# Altium footprint library drive.PcbLib: 35 footprints (part 1 of 3)
Each footprint in its own frame and in the unit in brackets; x right, y up, seen from the top. Pads: shape width x height; smd on the part's side, far side on the other; paste and mask are expansions set on the pad; w line width, h text height; cw(c..) or ccw(c..) is an arc to the next point about the centre after c.
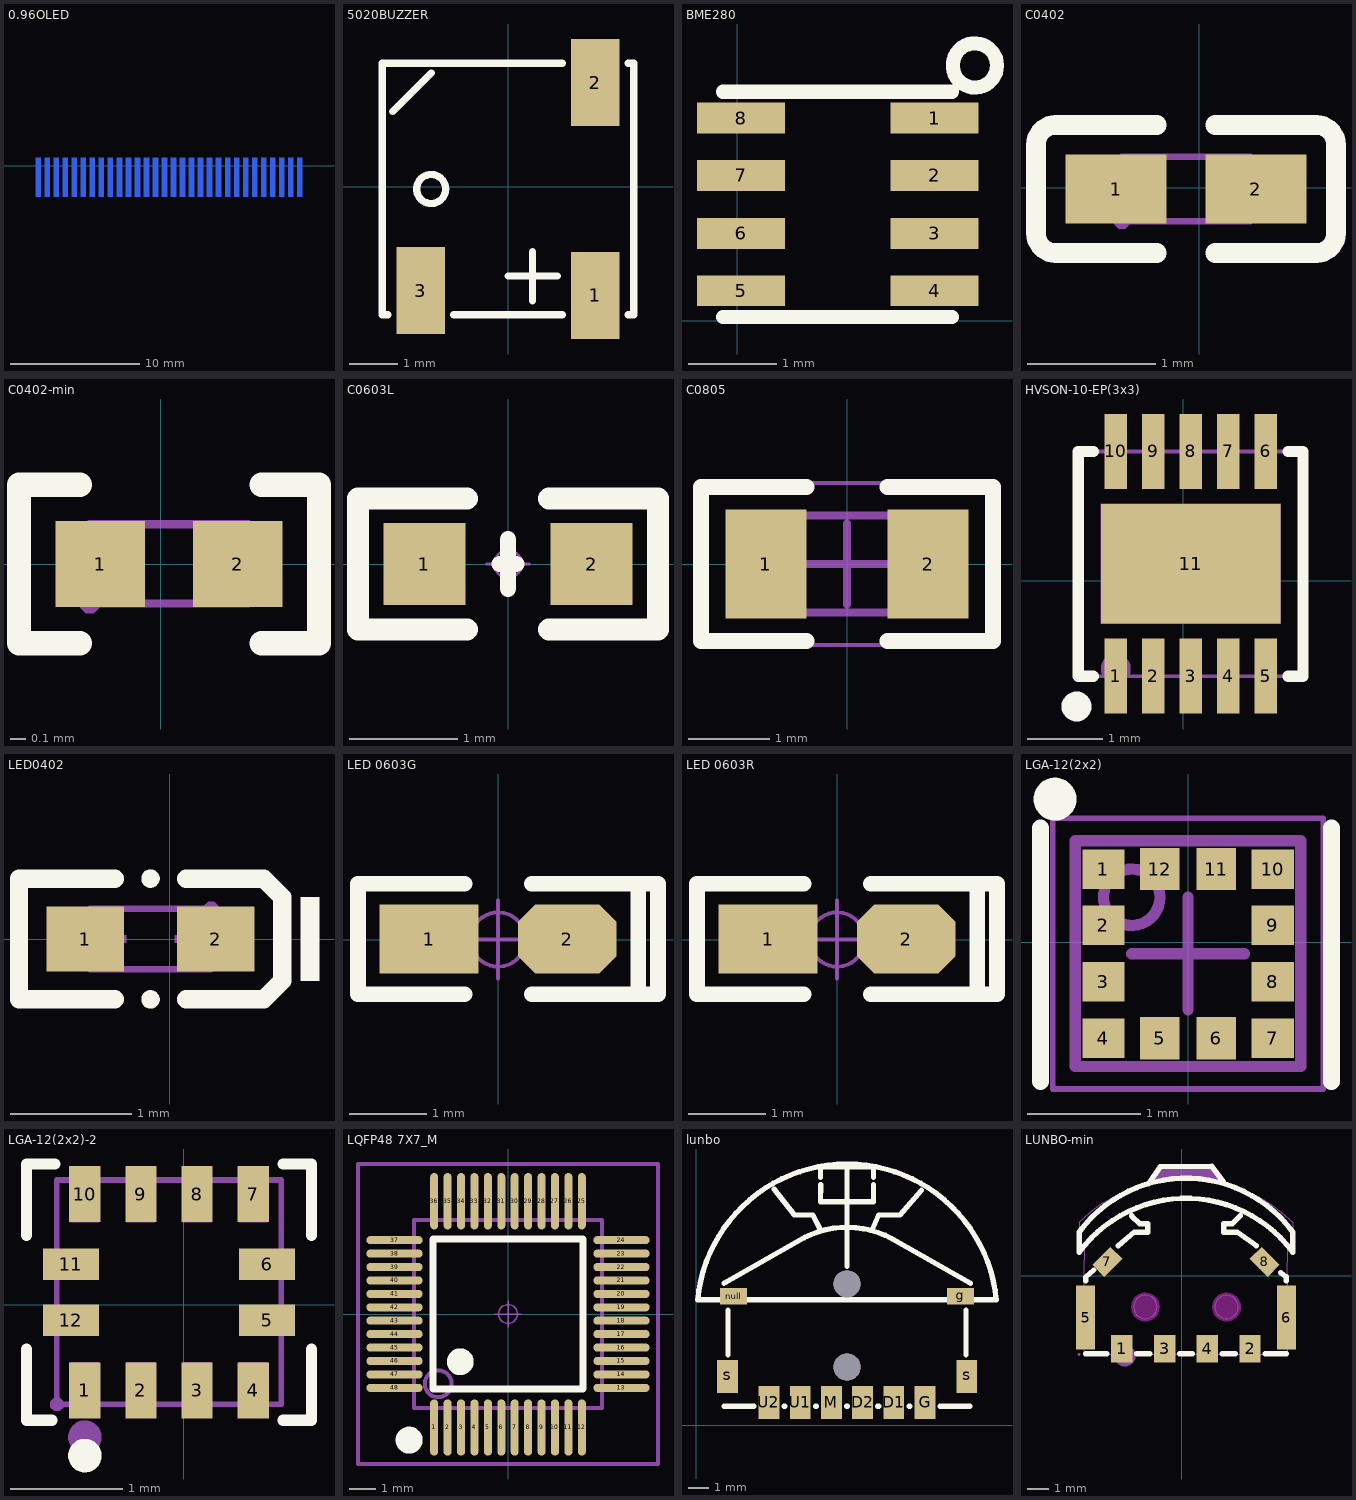
[diagram p0: the footprints below, top view; thin cyan lines are the x and y axes]

## 0.96OLED [mm]
pads (30):
  rect 0.4x3 smd far side: 1(6.35,-0.9) 2(7.05,-0.9) 3(7.75,-0.9) 4(8.45,-0.9) 5(9.15,-0.9) 6(9.85,-0.9) 7(10.55,-0.9) 8(11.25,-0.9) 9(11.95,-0.9) 10(12.65,-0.9) 11(13.35,-0.9) 12(14.05,-0.9) 13(14.75,-0.9) 14(15.45,-0.9) 15(16.15,-0.9) 16(16.85,-0.9) 17(17.55,-0.9) 18(18.25,-0.9) 19(18.95,-0.9) 20(19.65,-0.9) 21(20.35,-0.9) 22(21.05,-0.9) 23(21.75,-0.9) 24(22.45,-0.9) 25(23.15,-0.9) 26(23.85,-0.9) 27(24.55,-0.9) 28(25.25,-0.9) 29(25.95,-0.9) 30(26.65,-0.9)
Bottom Overlay:
  lines w0.127: 5.3,-5.12 5.3,1.2 5.5,1.5 27.5,1.5 27.7,1.2 27.7,-4.97
  text "30" at 27.301,-3.359 h0.8

## 5020BUZZER [mm] "无源蜂鸣器"
height 1.2
pads (3):
  rect 1x1.8 smd: 1(1.8,-2.25) 2(1.8,2.152) 3(-1.8,-2.151)
Top Overlay:
  circle w0.15: c-1.588,-0.049 r0.3
  lines w0.15: -2.48,-2.649 -2.6,-2.649 -2.6,2.551 -2.4,2.551 1.121,2.551 ; -2.388,1.551 -1.588,2.351 ; -1.121,-2.649 1.121,-2.649 ; 0,-1.849 1.016,-1.849 ; 0.508,-2.357 0.508,-1.341 ; 2.48,-2.649 2.6,-2.649 2.6,2.551 2.48,2.551
3D body "BEEP_5020.STEP": height 2, standoff -0.1, extent -2.6,-2.7 2.6,2.5

## BME280 [mm]
height 1.6
pads (8):
  rect 1x0.351 smd: 1(2.243,2.301) 2(2.243,1.651) 3(2.243,0.991) 4(2.243,0.341) 5(0.043,0.341) 6(0.043,0.991) 7(0.043,1.651) 8(0.043,2.301)
Top Overlay:
  circle w0.16: c2.7,2.9 r0.251
  lines w0.16: -0.16,0.041 2.44,0.041 ; -0.16,2.601 2.44,2.601
3D body "BME280.STEP": height 0.93, standoff 0, extent -0.15,0.05 2.35,2.55

## C0402 [mm]
pads (2):
  rect 0.79x0.54 smd paste-100 mask+0.051: 1(-0.646,-0.009) 2(0.444,-0.009)
Top Overlay:
  lines w0.152: -0.328,-0.508 -1.118,-0.508 cw(c-1.118,-0.356) -1.27,-0.356 -1.27,0.337 cw(c-1.118,0.337) -1.118,0.489 -0.328,0.489 ; 0.125,-0.508 0.915,-0.508 ccw(c0.915,-0.356) 1.067,-0.356 1.067,0.337 ccw(c0.915,0.337) 0.915,0.489 0.125,0.489
Top Paste:
  region: 0.679,0.216 0.679,-0.234 0.629,-0.284 0.149,-0.284 0.079,-0.234 0.079,0.216 0.149,0.266 0.629,0.266
  region: -0.281,0.216 -0.281,-0.234 -0.351,-0.284 -0.831,-0.284 -0.881,-0.234 -0.881,0.216 -0.831,0.266 -0.351,0.266
Mechanical 15:
  region: 0.399,-0.259 0.399,0.241 0.149,0.241 0.149,-0.259
  region: -0.601,-0.259 -0.601,0.241 -0.351,0.241 -0.351,-0.259
  region: -0.541,-0.259 -0.541,-0.235 -0.576,-0.199 -0.626,-0.199 -0.661,-0.234 -0.661,-0.259 -0.661,-0.284 -0.626,-0.319 -0.577,-0.319 -0.541,-0.284
  lines w0.051: -0.601,-0.259 0.399,-0.259 0.399,0.241 -0.601,0.241 -0.601,-0.259

## C0402-min [mm]
pads (2):
  rect 0.566x0.54 smd paste-100 mask+0.051: 1(-0.381,0) 2(0.485,0)
Top Overlay:
  lines w0.152: -0.508,-0.499 -0.892,-0.499 -0.892,0.499 -0.508,0.499 ; 0.635,-0.499 0.996,-0.499 0.996,0.499 0.635,0.499
Top Paste:
  region: 0.187,-0.23 0.187,0.23 0.227,0.27 0.727,0.27 0.767,0.23 0.767,-0.23 0.727,-0.27 0.227,-0.27
  region: -0.083,-0.23 -0.083,0.23 -0.123,0.27 -0.624,0.27 -0.664,0.23 -0.664,-0.23 -0.624,-0.27 -0.123,-0.27
Mechanical 15:
  region: -0.388,-0.25 -0.388,-0.225 -0.423,-0.19 -0.473,-0.19 -0.508,-0.225 -0.508,-0.25 -0.508,-0.275 -0.473,-0.31 -0.423,-0.31 -0.388,-0.275
  region: 0.303,-0.25 0.303,0.25 0.553,0.25 0.553,-0.25
  region: -0.197,0.25 -0.197,-0.25 -0.447,-0.25 -0.447,0.25
  lines w0.051: -0.448,-0.25 -0.448,0.25 0.552,0.25 0.552,-0.25 -0.448,-0.25

## C0603L [mil]
pads (2):
  rect 30x30 smd: 1(-30.59,0) 2(30.59,0)
Top Overlay:
  lines w6: -3,0 0,0 3,0 ; 0,-9 0,9
  lines w8: -15,-24 -54.82,-24 -54.82,24 -15,24 ; 15,-24 54.82,-24 54.82,24 15,24
Mechanical 15:
  circle w1: c0,0 r5
  lines w1: -7.87,0 7.87,0 ; 0,-7.87 0,7.87
3D body "C 0603.STEP": height 31.89, standoff -0.39, extent -31.5,-16.14 31.5,16.14

## C0805 [mm] "Chip Capacitor, 2-Leads, Body 2.00x1.20mm, IPC Medium Density"
height 1
pads (2):
  rect 1x1.35 smd: 1(-1,0) 2(1,0)
Top Overlay:
  lines w0.2: -0.5,-0.95 -1.8,-0.95 -1.8,0.95 -0.5,0.95 ; 0.5,-0.95 1.8,-0.95 1.8,0.95 0.5,0.95
Mechanical 13:
  lines w0.1: -1,-0.6 1,-0.6 1,0.6 -1,0.6 -1,-0.6
Mechanical 15:
  lines w0.05: -1.85,-1 1.85,-1 1.85,1 -1.85,1 -1.85,-1
  lines w0.1: -0.5,0 0.5,0 ; 0,-0.5 0,0.5
3D body "User Library-CapCeramic_Kemet_0805_2012.STEP": height 0.9, standoff 0, extent -1,-0.625 1,0.625

## HVSON-10-EP(3x3) [mm] "PCF8563BS"
pads (11):
  rect 0.3x1 smd paste+0 mask+0.05: 1(-0.9,-1.273) 2(-0.4,-1.273) 3(0.1,-1.273) 4(0.6,-1.273) 5(1.1,-1.273) 6(1.1,1.727) 7(0.6,1.727) 8(0.1,1.727) 9(-0.4,1.727) 10(-0.9,1.727)
  rect 2.4x1.6 smd paste+0 mask+0.05: 11(0.1,0.227)
Top Overlay:
  circle w0.2: c-1.424,-1.678 r0.1
  lines w0.15: -1.2,-1.273 -1.4,-1.273 -1.4,1.727 -1.2,1.727 ; 1.4,-1.273 1.6,-1.273 1.6,1.727 1.4,1.727
Mechanical 6:
  circle w0.2: c-0.9,-1.173 r0.1
Mechanical 15:
  region: -1.34,-1.273 -1.34,-1.248 -1.375,-1.213 -1.425,-1.213 -1.46,-1.248 -1.46,-1.273 -1.46,-1.298 -1.425,-1.333 -1.375,-1.333 -1.34,-1.298
  region: -1.025,1.727 -0.775,1.727 -0.775,1.327 -1.025,1.327
  region: -0.525,1.727 -0.275,1.727 -0.275,1.327 -0.525,1.327
  region: -0.025,1.727 0.225,1.727 0.225,1.327 -0.025,1.327
  region: 0.475,1.727 0.725,1.727 0.725,1.327 0.475,1.327
  region: 0.975,1.727 1.225,1.727 1.225,1.327 0.975,1.327
  region: 0.975,-0.873 1.225,-0.873 1.225,-1.273 0.975,-1.273
  region: 0.475,-0.873 0.725,-0.873 0.725,-1.273 0.475,-1.273
  region: -0.025,-0.873 0.225,-0.873 0.225,-1.273 -0.025,-1.273
  region: -0.525,-0.873 -0.275,-0.873 -0.275,-1.273 -0.525,-1.273
  region: -1.025,-0.873 -0.775,-0.873 -0.775,-1.273 -1.025,-1.273
  region: -1.1,1.027 1.3,1.027 1.3,-0.573 -1.1,-0.573
  lines w0.051: -1.4,-1.273 -1.4,1.727 1.6,1.727 1.6,-1.273 -1.4,-1.273

## LED0402 [mm]
pads (2):
  rect 0.636x0.54 smd paste-100 mask+0.051: 1(-0.695,0) 2(0.381,0)
Top Overlay:
  circle w0.076: c-0.157,0.499 r0.038
  circle w0.076: c-0.157,-0.499 r0.038
  region: 1.08,0.346 1.08,-0.346 1.233,-0.346 1.233,0.346
  lines w0.152: -0.453,-0.499 -1.242,-0.499 -1.242,0.499 -0.453,0.499 ; 0.139,-0.499 0.775,-0.499 0.928,-0.346 0.928,0.346 0.775,0.499 0.139,0.499
Top Paste:
  region: -0.355,0.23 -0.355,-0.23 -0.395,-0.27 -0.974,-0.27 -1.014,-0.23 -1.014,0.23 -0.974,0.27 -0.395,0.27
  region: 0.041,0.23 0.041,-0.23 0.081,-0.27 0.659,-0.27 0.699,-0.23 0.699,0.23 0.659,0.27 0.081,0.27
Mechanical 6:
  region: 0.283,0.03 0.283,-0.03 0.043,-0.03 0.043,0.03
  region: -0.597,0.03 -0.597,-0.03 -0.357,-0.03 -0.357,0.03
  region: -0.507,0.2 -0.507,-0.2 -0.447,-0.2 -0.447,0.2
Mechanical 15:
  region: 0.283,0.25 0.283,0.225 0.318,0.191 0.367,0.191 0.402,0.225 0.403,0.25 0.402,0.274 0.367,0.309 0.318,0.309 0.283,0.274
  region: 0.343,0.25 0.343,-0.25 0.143,-0.25 0.143,0.25
  region: -0.657,0.25 -0.657,-0.25 -0.457,-0.25 -0.457,0.25
  lines w0.051: -0.657,-0.25 0.343,-0.25 0.343,0.25 -0.657,0.25 -0.657,-0.25

## LED 0603G [mil]
pads (2):
  rect 50x35 smd: 1(-34.99,0.26)
  oct 50x35 smd: 2(35.01,0.26)
Top Overlay:
  lines w8: -17,-27.74 -71,-27.74 -71,-25.74 -71,28.26 -70,28.26 -17,28.26 ; 17,-27.74 70,-27.74 ; 17,28.26 71,28.26 81,28.26 81,-27.74 71,-27.74 71,26.26
Mechanical 15:
  circle w1.97: c0,0 r13.78
  lines w1.97: -19.68,0 19.68,0 ; 0,-19.69 0,19.68
3D body "LED 0603-G.STEP": height 18.34, standoff -0.16, extent -31.49,-15.78 31.5,15.79
3D body "LED 0603玻璃罩.STEP": height 23.82, standoff 8.07, extent -23.62,-15.75 23.62,15.75

## LED 0603R [mil]
pads (2):
  rect 50x35 smd: 1(-35,0.26)
  oct 50x35 smd: 2(35,0.26)
Top Overlay:
  lines w8: -17,-27.74 -71,-27.74 -71,-25.74 -71,28.26 -70,28.26 -17,28.26 ; 17,-27.74 70,-27.74 ; 17,28.26 71,28.26 81,28.26 81,-27.74 71,-27.74 71,26.26
Mechanical 15:
  circle w1.97: c0,0 r13.78
  lines w1.97: -19.69,0 19.68,0 ; 0,-19.69 0,19.68
3D body "LED 0603-R.STEP": height 18.34, standoff -0.16, extent -31.49,-15.78 31.5,15.79
3D body "LED 0603玻璃罩.STEP": height 23.82, standoff 8.07, extent -23.62,-15.75 23.62,15.75

## LGA-12(2x2) [mm] "BMA423"
pads (12):
  rect 0.375x0.35 smd: 1(-0.75,0.65) 2(-0.75,0.15) 3(-0.75,-0.35) 4(-0.75,-0.85) 7(0.75,-0.85) 8(0.75,-0.35) 9(0.75,0.15) 10(0.75,0.65)
  rect 0.35x0.375 smd: 5(-0.25,-0.85) 6(0.25,-0.85) 11(0.25,0.65) 12(-0.25,0.65)
Top Overlay:
  circle w0.2: c-1.18,1.27 r0.09
  lines w0.15: -1.307,-1.234 -1.307,1.016 ; 1.27,-1.234 1.27,1.016
Mechanical 13:
  circle w0.1: c-0.5,0.4 r0.25
  lines w0.1: -1,-1.1 -1,0.9 1,0.9 1,-1.1 -1,-1.1
Mechanical 15:
  lines w0.05: -1.2,-1.3 1.2,-1.3 1.2,1.1 -1.2,1.1 -1.2,-1.3
  lines w0.1: -0.5,-0.1 0.5,-0.1 ; 0,-0.6 0,0.4
3D body: height 1, standoff 0.05, extent -1,-1.1 1,0.9

## LGA-12(2x2)-2 [mm] "BMA423"
pads (12):
  rect 0.28x0.5 smd: 1(-0.881,-0.762) 2(-0.381,-0.762) 3(0.119,-0.762) 4(0.619,-0.762) 7(0.619,0.988) 8(0.119,0.988) 9(-0.381,0.988) 10(-0.881,0.988)
  rect 0.5x0.28 smd: 5(0.744,-0.137) 6(0.744,0.363) 11(-1.006,0.363) 12(-1.006,-0.137)
Top Overlay:
  circle w0.15: c-0.881,-1.344 r0.075
  lines w0.1: -1.401,-0.395 -1.401,-1.03 -1.175,-1.03 ; -1.401,0.621 -1.401,1.256 -1.147,1.256 ; 0.885,-1.03 1.139,-1.03 1.139,-0.395 ; 0.885,1.256 1.139,1.256 1.139,0.621
Mechanical 6:
  circle w0.15: c-0.881,-1.18 r0.075
Mechanical 15:
  region: -0.756,-0.012 -0.756,-0.262 -1.031,-0.262 -1.031,-0.012
  region: -0.756,0.488 -0.756,0.238 -1.031,0.238 -1.031,0.488
  region: -0.756,0.738 -1.006,0.738 -1.006,1.013 -0.756,1.013
  region: -0.256,0.738 -0.506,0.738 -0.506,1.013 -0.256,1.013
  region: 0.244,0.738 -0.006,0.738 -0.006,1.013 0.244,1.013
  region: 0.744,0.738 0.494,0.738 0.494,1.013 0.744,1.013
  region: 0.494,0.238 0.494,0.488 0.769,0.488 0.769,0.238
  region: 0.494,-0.262 0.494,-0.012 0.769,-0.012 0.769,-0.262
  region: 0.494,-0.512 0.744,-0.512 0.744,-0.787 0.494,-0.787
  region: -0.006,-0.512 0.244,-0.512 0.244,-0.787 -0.006,-0.787
  region: -0.506,-0.512 -0.256,-0.512 -0.256,-0.787 -0.506,-0.787
  region: -1.006,-0.512 -0.756,-0.512 -0.756,-0.787 -1.006,-0.787
  region: -1.071,-0.887 -1.072,-0.863 -1.107,-0.829 -1.155,-0.829 -1.19,-0.863 -1.191,-0.887 -1.19,-0.911 -1.155,-0.945 -1.107,-0.945 -1.072,-0.911
  lines w0.051: -1.131,-0.887 0.869,-0.887 0.869,1.113 -1.131,1.113 -1.131,-0.887

## LQFP48 7X7_M [mm] "48脚，体宽7x7mm，脚距0.5mm F103C8T6"
height 1.6
pads (48):
  oval 0.3x2.1 smd: 1(-2.75,-4.227) 2(-2.25,-4.227) 3(-1.75,-4.227) 4(-1.25,-4.227) 5(-0.75,-4.227) 6(-0.25,-4.227) 7(0.25,-4.227) 8(0.75,-4.227) 9(1.25,-4.227) 10(1.75,-4.227) 11(2.25,-4.227) 12(2.75,-4.227) 25(2.75,4.202) 26(2.25,4.202) 27(1.75,4.202) 28(1.25,4.202) 29(0.75,4.202) 30(0.25,4.202) 31(-0.25,4.202) 32(-0.75,4.202) 33(-1.25,4.202) 34(-1.75,4.202) 35(-2.25,4.202) 36(-2.75,4.202)
  oval 2.1x0.3 smd: 13(4.227,-2.75) 14(4.227,-2.25) 15(4.227,-1.75) 16(4.227,-1.25) 17(4.227,-0.75) 18(4.227,-0.25) 19(4.227,0.25) 20(4.227,0.75) 21(4.227,1.25) 22(4.227,1.75) 23(4.227,2.25) 24(4.227,2.75) 37(-4.227,2.75) 38(-4.227,2.25) 39(-4.227,1.75) 40(-4.227,1.25) 41(-4.227,0.75) 42(-4.227,0.25) 43(-4.227,-0.25) 44(-4.227,-0.75) 45(-4.227,-1.25) 46(-4.227,-1.75) 47(-4.227,-2.25) 48(-4.227,-2.75)
Top Overlay:
  circle w0.5: c-1.778,-1.778 r0.25
  circle w0.508: c-3.683,-4.699 r0.25
  lines w0.254: -2.794,-2.794 2.794,-2.794 2.794,2.794 -2.794,2.794 -2.794,-2.794
Mechanical 13:
  circle w0.15: c-2.6,-2.6 r0.5
  lines w0.15: -3.5,-3.5 -3.5,3.5 3.5,3.5 3.5,-3.5 -3.5,-3.5
Mechanical 15:
  circle w0.05: c0,0 r0.35
  lines w0.05: -0.5,0 0.5,0 ; 0,-0.5 0,0.5
  lines w0.15: -5.588,-5.588 -5.588,5.588 5.588,5.588 5.588,-5.588 -5.588,-5.588
3D body "LQFP48-7x7.STEP": height 1.45, standoff 0, extent -4.503,-4.503 4.503,4.503

## lunbo [mm] "拨轮开关"
pads (12):
  rect 1x1.6 smd: D1(9.489,1.087) D2(7.989,1.087) G(10.989,1.087) M(6.489,1.087) s(1.489,2.337) s(12.989,2.337) U1(4.989,1.087) U2(3.489,1.087)
  rect 1.3x0.8 smd: g(12.689,6.187) null(1.789,6.187)
  round 1.3 hole 1.3 unplated: ""(7.239,2.787) ""(7.239,6.787)
Top Overlay:
  lines w0.254: 1.332,6.817 5.179,9.008 ; 1.339,0.907 2.758,0.907 ; 1.524,3.366 1.524,5.525 ; 3.747,11.332 4.699,10.097 5.588,10.097 5.995,9.332 ; 4.22,0.907 4.258,0.907 ; 5.179,9.007 cw(c7.239,5.017) 9.398,8.954 13.17,6.817 ; 5.72,0.907 5.758,0.907 ; 5.969,11.892 5.969,12.409 8.509,12.409 8.511,11.892 ; 5.972,11.543 5.969,10.732 8.509,10.732 8.512,11.542 ; 7.22,0.907 7.258,0.907 ; 7.239,7.628 7.239,12.517 ; 8.429,9.347 8.763,10.097 9.779,10.097 10.823,11.28 ; 8.72,0.907 8.758,0.907 ; 10.22,0.907 10.258,0.907 ; 11.72,0.907 13.149,0.907 ; 12.954,3.368 12.954,5.525 ; 0.063,6.017 cw(c7.239,5.337) 14.414,6.017 0.064,6.017

## LUNBO-min [mm]
pads (8):
  rect 1x1.3 smd: 1(-2.803,-3.414) 2(3.197,-3.414) 3(-0.803,-3.414) 4(1.197,-3.414)
  rect 0.9x3 smd: 5(-4.503,-1.964) 6(4.897,-1.964)
  rect 1.2x0.8 smd rot 45: 7(-3.483,0.646)
  rect 1.2x0.8 smd rot 135: 8(3.877,0.646)
Top Overlay:
  lines w0.25: -4.803,1.103 -4.803,2.031 ; -4.803,2.047 cw(c0.197,-1.652) 5.197,2.047 5.197,1.103 ; -4.802,1.103 cw(c0.198,-2.596) 5.198,1.103 ; -1.019,5.087 -1.556,4.31 -1.019,5.1 1.41,5.12 1.95,4.405
  lines w0.254: -4.503,-3.662 -3.503,-3.662 ; -4.502,-0.241 -4.502,-0.058 -4.121,0.267 ; -2.981,1.409 -2.219,2.044 -1.584,2.044 -1.584,2.425 -1.965,2.425 -2.346,2.806 ; -2.103,-3.662 -1.503,-3.662 ; -0.103,-3.662 0.497,-3.662 ; 1.897,-3.662 2.497,-3.662 ; 2.734,2.806 2.353,2.425 1.972,2.425 1.972,2.044 2.607,2.044 3.496,1.409 ; 3.897,-3.662 4.897,-3.662 ; 4.642,0.14 4.896,-0.058 4.896,-0.241
Keep-Out Layer:
  board cut-out: 2.647,-1.464 2.647,-1.355 2.563,-1.152 2.408,-0.998 2.206,-0.914 1.987,-0.914 1.785,-0.998 1.63,-1.152 1.547,-1.355 1.547,-1.464 1.547,-1.573 1.63,-1.776 1.785,-1.93 1.987,-2.014 2.206,-2.014 2.408,-1.93 2.563,-1.776 2.647,-1.573
  board cut-out: -1.153,-1.464 -1.153,-1.355 -1.237,-1.152 -1.392,-0.998 -1.594,-0.914 -1.813,-0.914 -2.015,-0.998 -2.169,-1.152 -2.253,-1.355 -2.253,-1.464 -2.253,-1.573 -2.169,-1.776 -2.015,-1.93 -1.813,-2.014 -1.594,-2.014 -1.392,-1.93 -1.237,-1.776 -1.153,-1.573
Keep-Out Layer:
  circle w0.025: c2.097,-1.464 r0.55
  circle w0.254: c2.097,-1.464 r0.55
  circle w0.025: c-1.703,-1.464 r0.55
  circle w0.254: c-1.703,-1.464 r0.55
Mechanical 1:
  circle w0.025: c2.097,-1.464 r0.55
  circle w0.025: c-1.703,-1.464 r0.55
Mechanical 6:
  circle w0.5: c-2.663,-3.744 r0.25
  region: -1.413,4.366 0.2,4.437 1.767,4.366 1.315,5.205 -0.947,5.198
Mechanical 15:
  region: -4.746,-3.682 -4.747,-3.658 -4.782,-3.624 -4.83,-3.624 -4.865,-3.658 -4.866,-3.682 -4.865,-3.706 -4.83,-3.739 -4.782,-3.739 -4.747,-3.706
  region: 2.872,-2.982 3.522,-2.982 3.522,-3.682 2.872,-3.682
  region: 0.872,-2.982 1.522,-2.982 1.522,-3.682 0.872,-3.682
  region: -1.128,-2.982 -0.478,-2.982 -0.478,-3.682 -1.128,-3.682
  region: -3.128,-2.982 -2.478,-2.982 -2.478,-3.682 -3.128,-3.682
  region: 4.637,-0.714 4.937,-0.714 4.937,-3.214 4.637,-3.214
  region: -4.557,-0.714 -4.257,-0.714 -4.257,-3.214 -4.557,-3.214
  region: 3.948,0.364 3.594,0.717 3.806,0.929 4.16,0.576
  region: -3.766,0.575 -3.412,0.929 -3.2,0.717 -3.554,0.363
  lines w0.051: -4.806,2.493 -4.804,1.501 -4.751,1.352 -4.565,1.344 -4.558,0.729 -4.558,-1.456 -4.558,-3.682 4.945,-3.667 4.939,-0.094 4.955,1.322 5.083,1.355 5.198,1.442 5.192,2.503 4.665,2.978 4.167,3.35 3.602,3.688 3.028,3.985 2.37,4.234 1.706,4.527 1.297,5.231 -0.926,5.22 -1.006,5.048 -1.276,4.515 -2.05,4.22 -2.619,3.999 -3.16,3.721 -3.743,3.387 -4.279,2.973 -4.806,2.493